# EAGLE library part TPD4S010_DQA_10 (library TI)
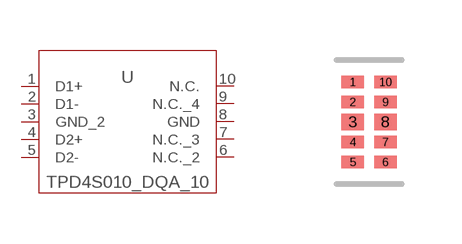
[diagram p3: symbol with the pads of DQA10; footprint DQA10]

Designator prefix U

## TPD4S010_DQA_10 (DATASHEETURL: http://www.ti.com/lit/gpn/TPD4S010; DESCRIPTION: 4-Channel ESD Solution for High-Speed Differential Interface; FAMILY_NAME: ESD Solution; GENERIC_PART_NUMBER: TPD4S010; INDUSTRY_STD_PKG_TYPE: SON; MANUFACTURER: Texas Instruments; MANUFACTURER_PART_NUMBER: tpd4s010_dqa_10; PACKAGE_DESIGNATOR: DQA; PIN_COUNT: 10; VENDOR: Texas Instruments)  [DQA10]
1  D1+  pas
2  D1-  pas
3  GND_2  pwr
4  D2+  pas
5  D2-  pas
6  N.C._2  nc
7  N.C._3  nc
8  GND  pwr
9  N.C._4  nc
10  N.C.  nc

## Footprint DQA10 (pad centres in mm)
smd 0.559 x 0.305: 1 -0.41,1; 2 -0.41,0.5; 4 -0.41,-0.5; 5 -0.41,-1; 6 0.41,-1; 7 0.41,-0.5; 9 0.41,0.5; 10 0.41,1
smd 0.559 x 0.406: 3 -0.41,0; 8 0.41,0